# Altium footprint library 662104130822.PcbLib: 1 footprints
Each footprint in its own frame and in the unit in brackets; x right, y up, seen from the top. Pads: shape width x height; smd on the part's side, far side on the other; paste and mask are expansions set on the pad; w line width, h text height; cw(c..) or ccw(c..) is an arc to the next point about the centre after c.
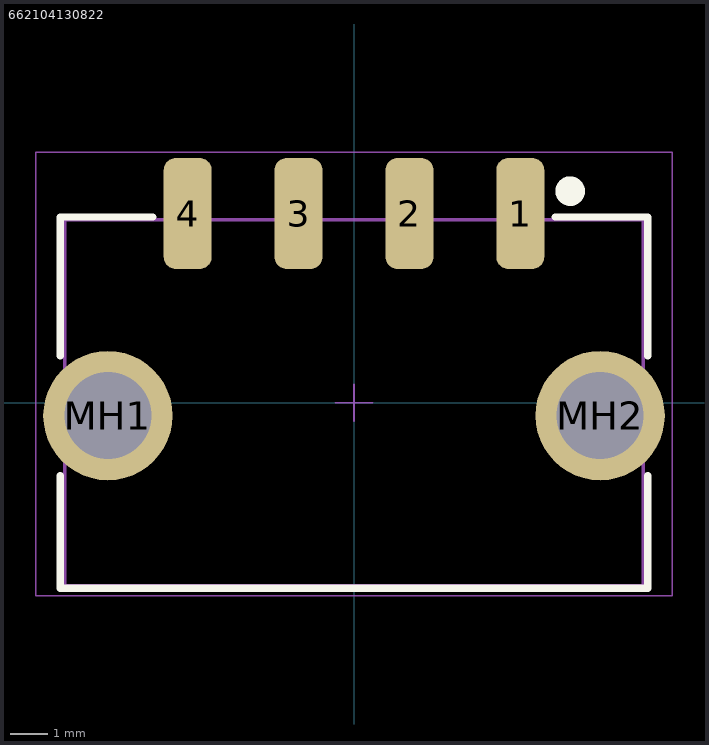
[diagram p0: the footprint, top view; thin cyan lines are the x and y axes]

## 662104130822 [mm] "3.00mm SMT Male Single Row Angled Header with THT Retention Clip, 4p"
height 5.57
pads (6):
  rrect50% 1.3x3 smd: 1(4.5,5.12) 2(1.5,5.12) 3(-1.5,5.12) 4(-4.5,5.12)
  round 3.5 hole 2.35: MH1(-6.66,-0.35) MH2(6.66,-0.35)
Top Overlay:
  circle w0.4: c5.85,5.725 r0.2
  lines w0.2: -7.95,-1.975 -7.95,-5.025 7.95,-5.025 7.95,-1.975 ; -7.95,1.275 -7.95,5.025 -5.45,5.025 ; 5.45,5.025 7.95,5.025 7.95,1.275
Top Assembly:
  lines w0.1: -7.825,-4.95 7.825,-4.95 7.825,4.95 -7.825,4.95 -7.825,-4.95
Top Courtyard:
  lines w0.05: -0.5,0 0.5,0 ; 0,-0.5 0,0.5 ; -8.61,-5.225 8.61,-5.225 8.61,6.78 -8.61,6.78 -8.61,-5.225
3D body "662104130822.stp": height 5.61, standoff -2.01, extent -7.825,-4.95 7.825,6.398